# Altium footprint library WURTH_760390014.PcbLib: 1 footprints
Each footprint in its own frame and in the unit in brackets; x right, y up, seen from the top. Pads: shape width x height; smd on the part's side, far side on the other; paste and mask are expansions set on the pad; w line width, h text height; cw(c..) or ccw(c..) is an arc to the next point about the centre after c.
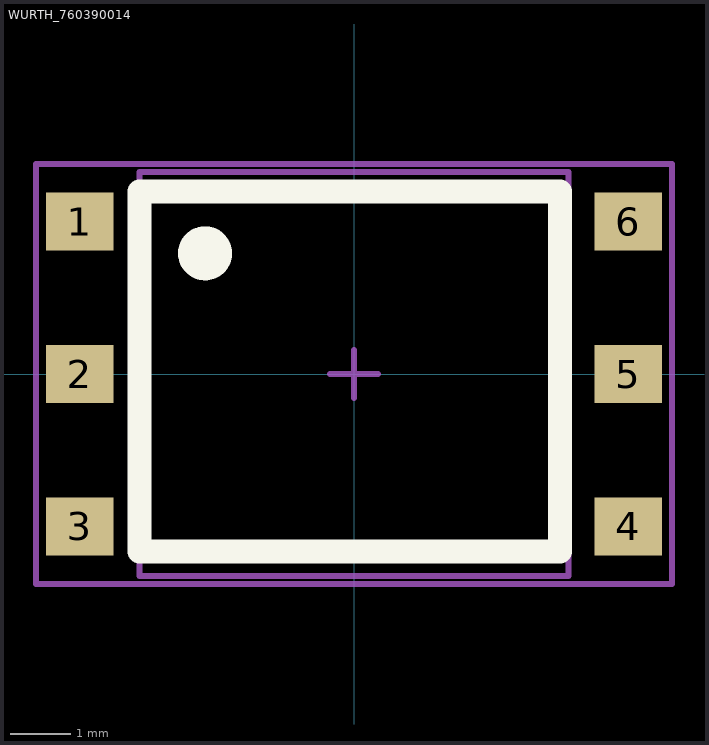
[diagram p0: the footprint, top view; thin cyan lines are the x and y axes]

## WURTH_760390014 [mm] "Wurth Elektronik 760390014"
height 4.19
pads (6):
  rect 1.12x0.96 smd mask+0.05: 1(-4.57,2.54) 2(-4.57,0) 3(-4.57,-2.54) 4(4.57,-2.54) 5(4.57,0) 6(4.57,2.54)
Top Overlay:
  circle w0.5: c-2.482,2.01 r0.2
  lines w0.4: -3.572,-2.96 -3.572,3.04 3.428,3.04 3.428,-2.96 -3.572,-2.96
Mechanical 13:
  lines w0.1: -3.57,-3.365 -3.57,3.365 3.57,3.365 3.57,-3.365 -3.57,-3.365
Mechanical 15:
  lines w0.1: -0.4,0 0.4,0 ; 0,-0.4 0,0.4 ; -5.3,-3.5 5.3,-3.5 5.3,3.5 -5.3,3.5 -5.3,-3.5
3D body "WE-760390014.STEP": height 4.19, standoff 0, extent -4.981,-3.238 4.979,3.241